# EAGLE library part IN-8 (library bodger)
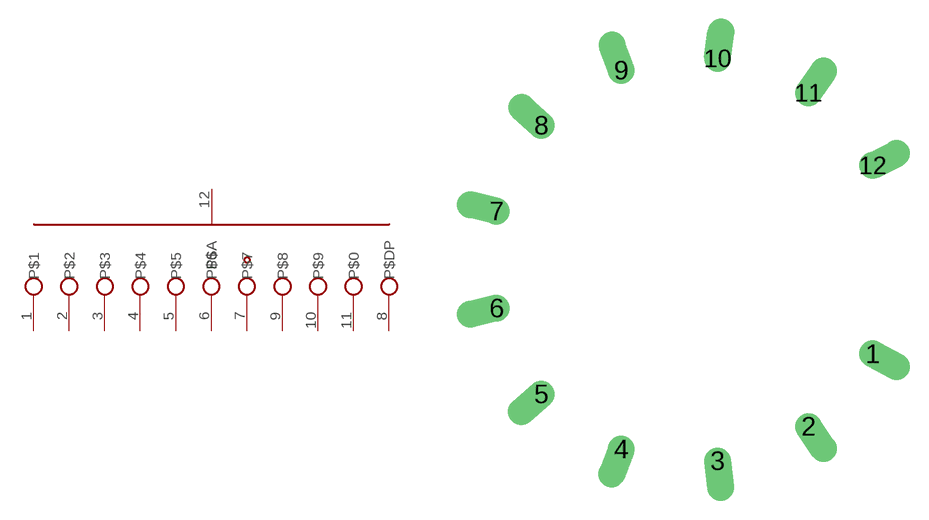
[diagram p13: symbol with the pads of NIXIE; footprint NIXIE]

Designator prefix -

## IN-8  [NIXIE]
1  P$1
2  P$2
3  P$3
4  P$4
5  P$5
6  P$6
7  P$7
8  P$DP
9  P$8
10  P$9
11  P$0
12  P$A

## Footprint NIXIE (pad centres in mm)
nixie tube
drill 0.749 offset: 1 8.412,-4.415; 2 5.397,-7.818; 3 1.146,-9.431; 4 -3.368,-8.882; 5 -7.112,-6.299; 6 -9.223,-2.273; 7 -9.223,2.273; 8 -7.112,6.299; 9 -3.368,8.882; 10 1.146,9.431; 11 5.397,7.818; 12 8.412,4.415